# EAGLE library part STK465 (library Simplex-ICs)
STK 461, STK 463, STK 465 stereo amplifier
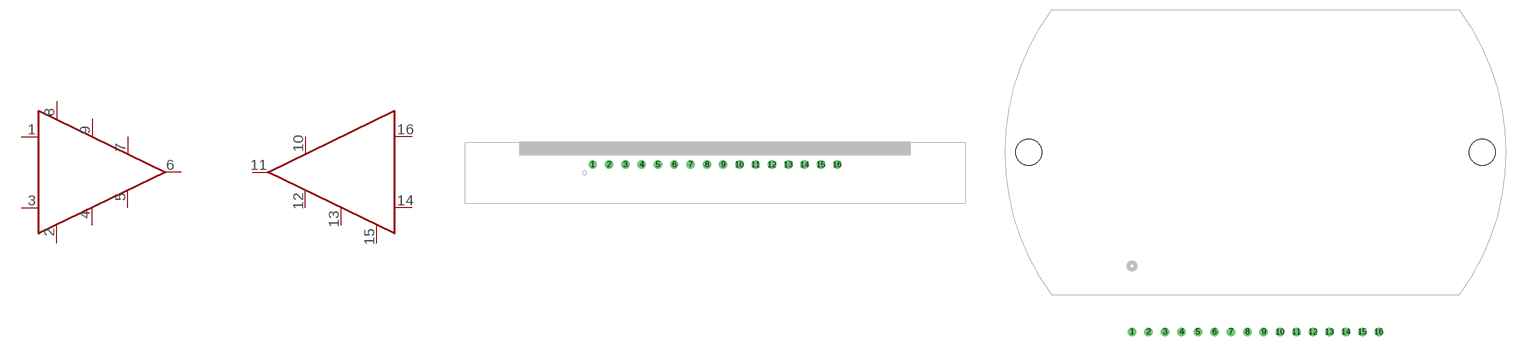
[diagram p8: symbol with the pads of STK465-V; footprints STK465-V, STK465-HT]

Designator prefix -; gates G$1=STK465-A G$2=STK465-B

## STK465VERT  [STK465-V]
1  G$1:1
2  G$1:2
3  G$1:3
4  G$1:4
5  G$1:5
6  G$1:6
7  G$1:7
8  G$1:8
9  G$1:9
10  G$2:10
11  G$2:11
12  G$2:12
13  G$2:13
14  G$2:14
15  G$2:15
16  G$2:16

## STK465HORIZ-TOP  [STK465-HT]
Pads as for STK465-V

## STK465HORIZ-BOTTOM  [STK465-HB]
Pads as for STK465-V

## Footprint STK465-V (pad centres in mm)
STK 461, STK 463, STK 465 stereo amplifier
drill 0.8: 1 -19.05,0; 2 -16.51,0; 3 -13.97,0; 4 -11.43,0; 5 -8.89,0; 6 -6.35,0; 7 -3.81,0; 8 -1.27,0; 9 1.27,0; 10 3.81,0; 11 6.35,0; 12 8.89,0; 13 11.43,0; 14 13.97,0; 15 16.51,0; 16 19.05,0

## Footprint STK465-HT (pad centres in mm)
drill 0.8: 1 -19.05,1.27; 2 -16.51,1.27; 3 -13.97,1.27; 4 -11.43,1.27; 5 -8.89,1.27; 6 -6.35,1.27; 7 -3.81,1.27; 8 -1.27,1.27; 9 1.27,1.27; 10 3.81,1.27; 11 6.35,1.27; 12 8.89,1.27; 13 11.43,1.27; 14 13.97,1.27; 15 16.51,1.27; 16 19.05,1.27
hole 4 at 35,29
hole 4 at -35,29

## Footprint STK465-HB (pad centres in mm)
STK 461, STK 463, STK 465 stereo amplifier
drill 0.8: 1 19.05,0; 2 16.51,0; 3 13.97,0; 4 11.43,0; 5 8.89,0; 6 6.35,0; 7 3.81,0; 8 1.27,0; 9 -1.27,0; 10 -3.81,0; 11 -6.35,0; 12 -8.89,0; 13 -11.43,0; 14 -13.97,0; 15 -16.51,0; 16 -19.05,0
hole 4 at 35,27.73
hole 4 at -35,27.73